# EAGLE library part PCA9306 (library mylib)
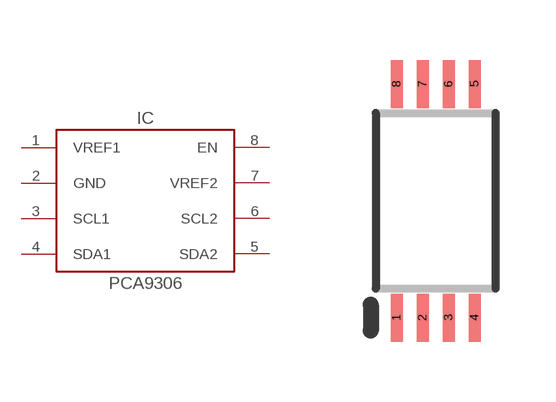
[diagram p128: symbol with the pads of SOT65P440X300-8N; footprint SOT65P440X300-8N]

Designator prefix IC

## PCA9306DTR2G  [SOT65P440X300-8N]
1  VREF1
2  GND
3  SCL1
4  SDA1
5  SDA2
6  SCL2
7  VREF2
8  EN

## Footprint SOT65P440X300-8N (pad centres in mm)
smd 0.3 x 1.2: 1 -0.975,-2.925; 2 -0.325,-2.925; 3 0.325,-2.925; 4 0.975,-2.925; 5 0.975,2.925; 6 0.325,2.925; 7 -0.325,2.925; 8 -0.975,2.925